# Altium schematic symbol library Schottky_diode.SchLib: 1 symbol
Pins are listed as number, name and electrical type; pins without a type are passive.

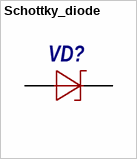
[diagram p0: symbol Schottky_diode]

## Schottky_diode
designator VD?
pins: 1, 2